# EAGLE library part NRX1 (library balto)
Radiometrix NRX1 - VHF Narrow Band FM Receiver
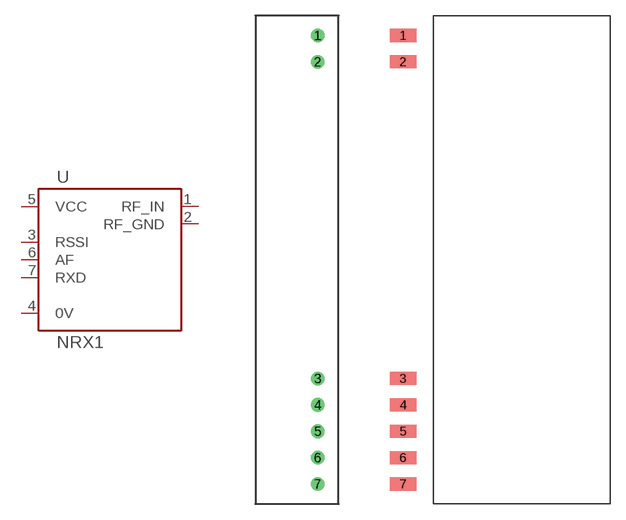
[diagram p39: symbol with the pads of NRX1-TOP; footprints NRX1-TOP, NRX-SMD]

Designator prefix U

## NRX1TOP  [NRX1-TOP]
1  RF_IN
2  RF_GND
3  RSSI
4  0V
5  VCC
6  AF
7  RXD

## NRX1SMD  [NRX-SMD]
Pads as for NRX1-TOP

## Footprint NRX1-TOP (pad centres in mm)
Radiometrix NRX1 - VHF Narrow Band FM Receiver
drill 0.8: 1 0,21.59; 2 0,19.05; 3 0,-11.43; 4 0,-13.97; 5 0,-16.51; 6 0,-19.05; 7 0,-21.59

## Footprint NRX-SMD (pad centres in mm)
Radiometrix NRX1 - VHF Narrow Band FM Receiver
smd 2.54 x 1.27: 1 -11.43,21.59; 2 -11.43,19.05; 3 -11.43,-11.43; 4 -11.43,-13.97; 5 -11.43,-16.51; 6 -11.43,-19.05; 7 -11.43,-21.59